# Altium schematic symbol library PE4259.SchLib: 1 symbol
Pins are listed as number, name and electrical type; pins without a type are passive.

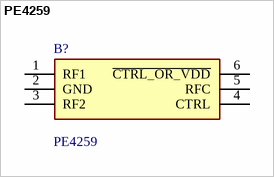
[diagram p0: symbol PE4259]

## PE4259
designator B?
PART NUMBER ONLY; Manufacturer_Name: Peregrine Semiconductor; Geometry.Height: 1.1mm; WinSource Part Number: *; WinSource Price/Stock: *; Manufacturer_Part_Number: PE4259; Datasheet Link: https://datasheet.datasheetarchive.com/originals/distributors/SFDatasheet-2/sf-00045491.pdf
footprint SOT65P210X110-6N
pins: 1 RF1, 2 GND, 3 RF2, 4 CTRL, 5 RFC, 6 ~{CTRL_OR_VDD}